# EAGLE library part SN74LVC2T45 (library pandaLight)
dual-bit dual-supply bus transceiver
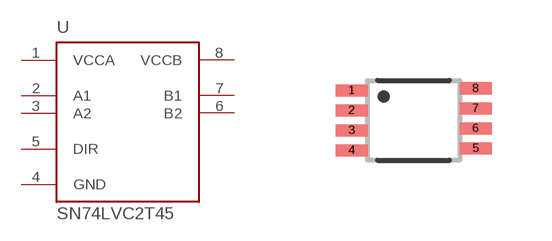
[diagram p17: symbol with the pads of S-PDSO-G8; footprint S-PDSO-G8]

Designator prefix U

## SN74LVC2T45DCUR  [S-PDSO-G8]
1  VCCA  pwr
2  A1
3  A2
4  GND  pwr
5  DIR  in
6  B2
7  B1
8  VCCB  pwr

## Footprint S-PDSO-G8 (pad centres in mm)
smd 0.8 x 0.3: 1 -1.55,0.75; 2 -1.55,0.25; 3 -1.55,-0.25; 4 -1.55,-0.75; 5 1.55,-0.7; 6 1.55,-0.2; 7 1.55,0.3; 8 1.55,0.8